# EAGLE library part H3LIS200DLTR (library Sensor)
ACCEL 100-200G I2C/SPI 16TFLGA Manufacturer's datasheet <https://www.st.com/content/ccc/resource/technical/document/datasheet/6c/e1/2a/9d/29/58/4e/25/DM00162194.pdf/files/DM00162194.pdf/jcr:content/translations/en.DM00162194.pdf>
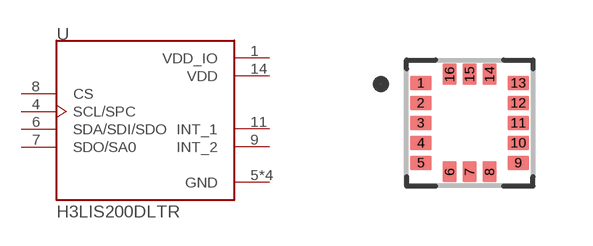
[diagram p25: symbol with the pads of TFLGA-16; footprint TFLGA-16]

Designator prefix U

## H3LIS200DLTR (CREATED_BY: PCBLayout.com; DIGIKEY_PARTNO: 497-15698-2-ND; MANUFACTURER: STMicroelectronics; MPN: H3LIS200DLTR; PACKAGE: TFLGA-16)  [TFLGA-16]
1  VDD_IO  pwr
4  SCL/SPC  in
5  GND  pwr
6  SDA/SDI/SDO
7  SDO/SA0  out
8  CS  in
9  INT_2  out
11  INT_1  out
12  GND  pwr
13  GND  pwr
14  VDD  pwr
16  GND  pwr

## Footprint TFLGA-16 (pad centres in mm)
smd 0.53 x 0.35: 1 -1.22,1; 2 -1.22,0.5; 3 -1.22,0; 4 -1.22,-0.5; 5 -1.22,-1; 9 1.22,-1; 10 1.22,-0.5; 11 1.22,0; 12 1.22,0.5; 13 1.22,1
smd 0.35 x 0.53: 6 -0.5,-1.22; 7 0,-1.22; 8 0.5,-1.22; 14 0.5,1.22; 15 0,1.22; 16 -0.5,1.22